# Altium schematic symbol library PTS636.SchLib: 1 symbol
Pins are listed as number, name and electrical type; pins without a type are passive.

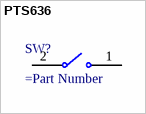
[diagram p0: symbol PTS636]

## PTS636
designator SW?
=Description
pins: 1, 2